# EAGLE library part MS500P (library FaBo-Switch)
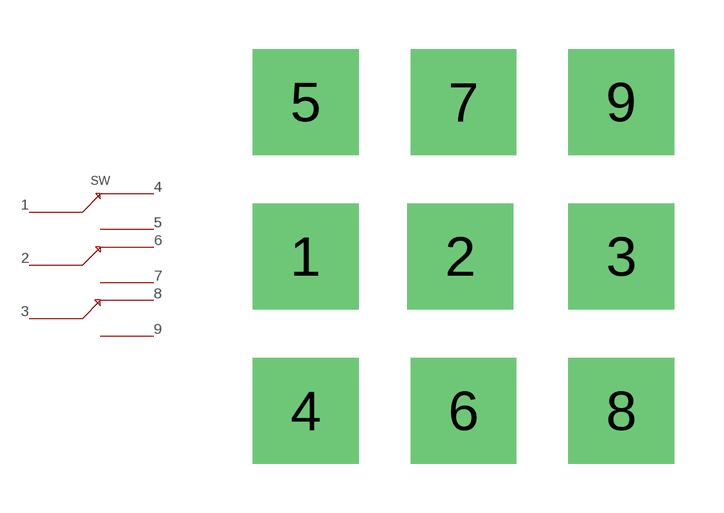
[diagram p0: symbol with the pads of MS500P; footprint MS500P]

Designator prefix SW

## MS500P  [MS500P]
1  1
2  2
3  3
4  4
5  5
6  6
7  7
8  8
9  9

## Footprint MS500P (pad centres in mm)
drill 2.2 square: 1 -9.6,-0.89; 2 -4.9,-0.89; 3 0,-0.89; 4 -9.6,-5.59; 5 -9.6,3.81; 6 -4.8,-5.59; 7 -4.8,3.81; 8 0,-5.59; 9 0,3.81